# Altium schematic symbol library TMS320.SchLib: 1 symbol
Pins are listed as number, name and electrical type; pins without a type are passive.

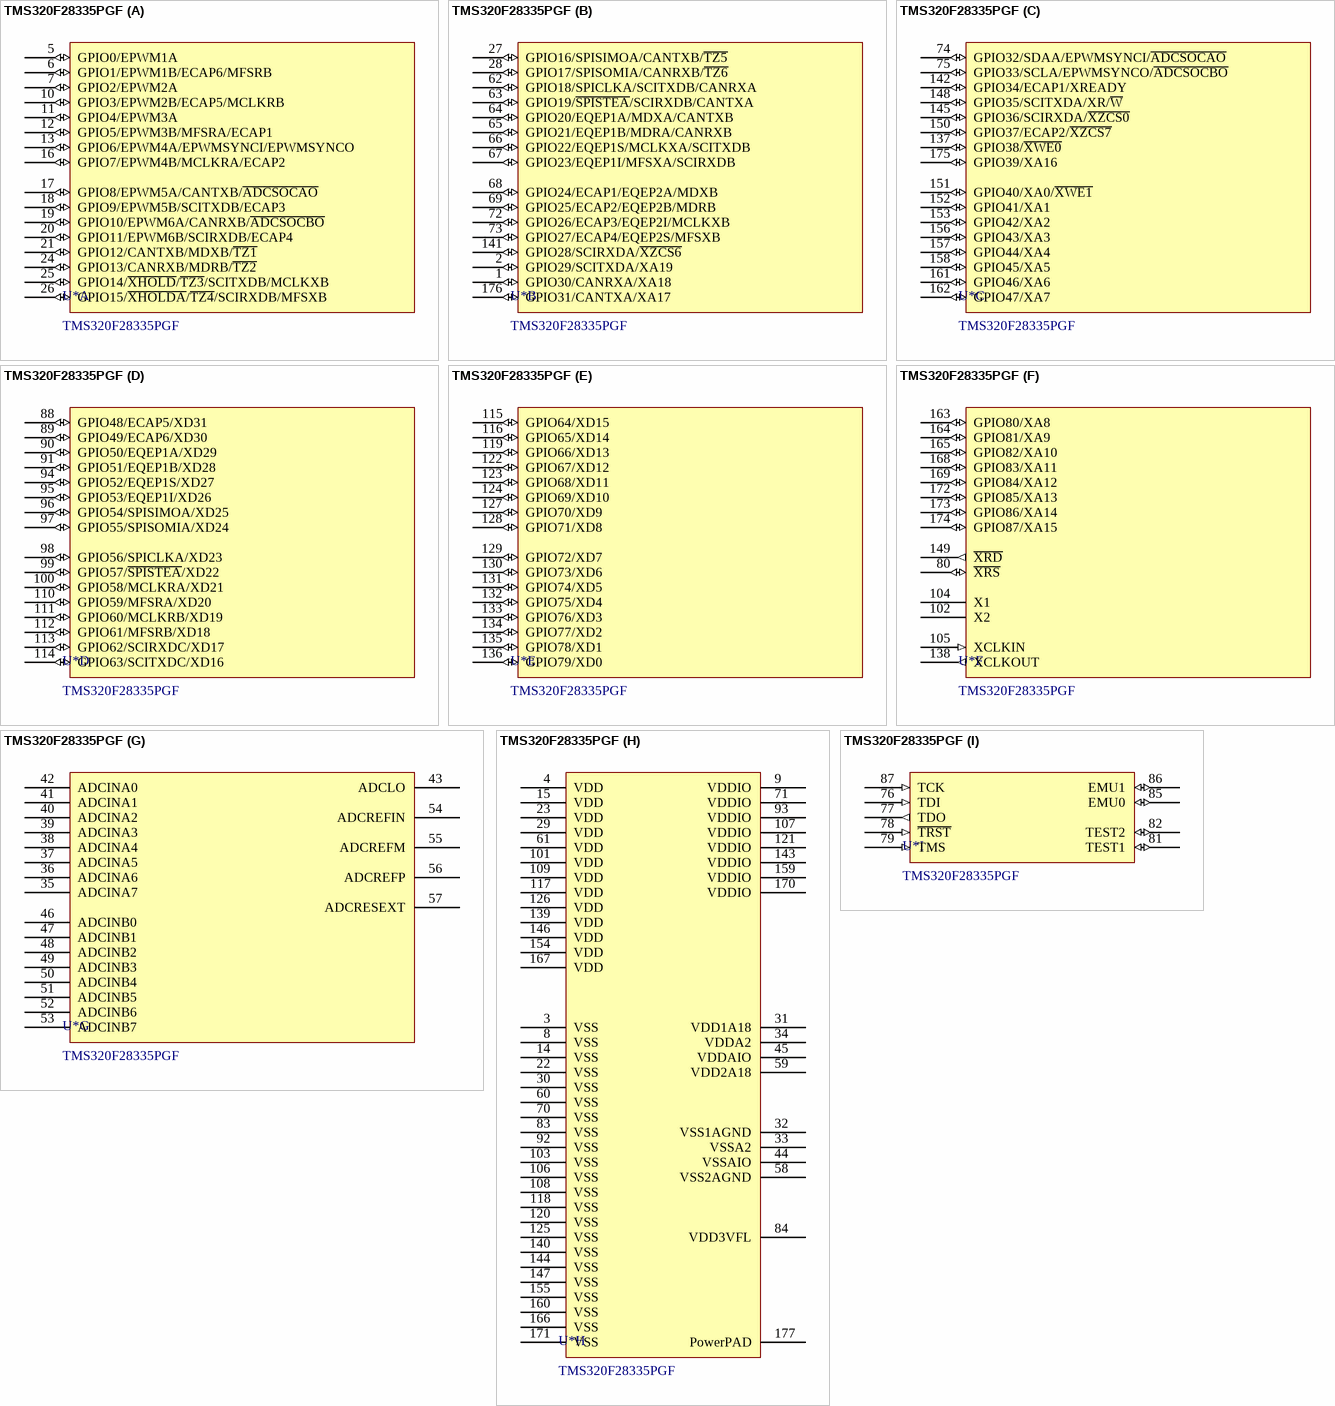
[diagram p0: symbol TMS320F28335PGF]

## TMS320F28335PGF
designator U*
DSP Delfino 150MHz 512KB Flash 68KB RAM
footprint LQFP176 (LQFP176 with PowerPAD.)
part A pins: 5 GPIO0/EPWM1A  (io), 6 GPIO1/EPWM1B/ECAP6/MFSRB  (io), 7 GPIO2/EPWM2A  (io), 10 GPIO3/EPWM2B/ECAP5/MCLKRB  (io), 11 GPIO4/EPWM3A (io), 12 GPIO5/EPWM3B/MFSRA/ECAP1  (io), 13 GPIO6/EPWM4A/EPWMSYNCI/EPWMSYNCO  (io), 16 GPIO7/EPWM4B/MCLKRA/ECAP2  (io), 17 GPIO8/EPWM5A/CANTXB/~{ADCSOCAO} (io), 18 GPIO9/EPWM5B/SCITXDB/ECAP3 (io), 19 GPIO10/EPWM6A/CANRXB/~{ADCSOCBO} (io), 20 GPIO11/EPWM6B/SCIRXDB/ECAP4 (io), 21 GPIO12/CANTXB/MDXB/~{TZ1}  (io), 24 GPIO13/CANRXB/MDRB/~{TZ2} (io), 25 GPIO14/~{XHOLD}/~{TZ3}/SCITXDB/MCLKXB (io), 26 GPIO15/~{XHOLDA}/~{TZ4}/SCIRXDB/MFSXB (io)
part B pins: 1 GPIO30/CANRXA/XA18 (io), 2 GPIO29/SCITXDA/XA19  (io), 27 GPIO16/SPISIMOA/CANTXB/~{TZ5} (io), 28 GPIO17/SPISOMIA/CANRXB/~{TZ6} (io), 62 GPIO18/SPICLKA/SCITXDB/CANRXA (io), 63 GPIO19/~{SPISTEA}/SCIRXDB/CANTXA (io), 64 GPIO20/EQEP1A/MDXA/CANTXB (io), 65 GPIO21/EQEP1B/MDRA/CANRXB (io), 66 GPIO22/EQEP1S/MCLKXA/SCITXDB (io), 67 GPIO23/EQEP1I/MFSXA/SCIRXDB (io), 68 GPIO24/ECAP1/EQEP2A/MDXB (io), 69 GPIO25/ECAP2/EQEP2B/MDRB (io), 72 GPIO26/ECAP3/EQEP2I/MCLKXB (io), 73 GPIO27/ECAP4/EQEP2S/MFSXB (io), 141 GPIO28/SCIRXDA/~{XZCS6} (io), 176 GPIO31/CANTXA/XA17 (io)
part C pins: 74 GPIO32/SDAA/EPWMSYNCI/~{ADCSOCAO} (io), 75 GPIO33/SCLA/EPWMSYNCO/~{ADCSOCBO} (io), 137 GPIO38/~{XWE0} (io), 142 GPIO34/ECAP1/XREADY (io), 145 GPIO36/SCIRXDA/~{XZCS0} (io), 148 GPIO35/SCITXDA/XR/~{W} (io), 150 GPIO37/ECAP2/~{XZCS7} (io), 151 GPIO40/XA0/~{XWE1} (io), 152 GPIO41/XA1 (io), 153 GPIO42/XA2 (io), 156 GPIO43/XA3 (io), 157 GPIO44/XA4 (io), 158 GPIO45/XA5 (io), 161 GPIO46/XA6 (io), 162 GPIO47/XA7 (io), 175 GPIO39/XA16 (io)
part D pins: 88 GPIO48/ECAP5/XD31 (io), 89 GPIO49/ECAP6/XD30 (io), 90 GPIO50/EQEP1A/XD29 (io), 91 GPIO51/EQEP1B/XD28 (io), 94 GPIO52/EQEP1S/XD27 (io), 95 GPIO53/EQEP1I/XD26 (io), 96 GPIO54/SPISIMOA/XD25 (io), 97 GPIO55/SPISOMIA/XD24 (io), 98 GPIO56/SPICLKA/XD23 (io), 99 GPIO57/~{SPISTEA}/XD22 (io), 100 GPIO58/MCLKRA/XD21 (io), 110 GPIO59/MFSRA/XD20 (io), 111 GPIO60/MCLKRB/XD19 (io), 112 GPIO61/MFSRB/XD18 (io), 113 GPIO62/SCIRXDC/XD17 (io), 114 GPIO63/SCITXDC/XD16 (io)
part E pins: 115 GPIO64/XD15 (io), 116 GPIO65/XD14 (io), 119 GPIO66/XD13 (io), 122 GPIO67/XD12 (io), 123 GPIO68/XD11 (io), 124 GPIO69/XD10 (io), 127 GPIO70/XD9 (io), 128 GPIO71/XD8 (io), 129 GPIO72/XD7 (io), 130 GPIO73/XD6 (io), 131 GPIO74/XD5 (io), 132 GPIO75/XD4 (io), 133 GPIO76/XD3 (io), 134 GPIO77/XD2 (io), 135 GPIO78/XD1 (io), 136 GPIO79/XD0 (io)
part F pins: 80 ~{XRS} (io) "Device Reset (in) and Watchdog Reset (out).", 102 X2, 104 X1, 105 XCLKIN (in), 138 XCLKOUT (out), 149 ~{XRD} (out), 163 GPIO80/XA8 (io), 164 GPIO81/XA9 (io), 165 GPIO82/XA10 (io), 168 GPIO83/XA11 (io), 169 GPIO84/XA12 (io), 172 GPIO85/XA13 (io), 173 GPIO86/XA14 (io), 174 GPIO87/XA15 (io)
part G pins: 35 ADCINA7, 36 ADCINA6, 37 ADCINA5, 38 ADCINA4, 39 ADCINA3, 40 ADCINA2, 41 ADCINA1, 42 ADCINA0, 43 ADCLO "Low Reference.", 46 ADCINB0, 47 ADCINB1, 48 ADCINB2, 49 ADCINB3, 50 ADCINB4, 51 ADCINB5, 52 ADCINB6, 53 ADCINB7, 54 ADCREFIN "External reference input.", 55 ADCREFM "Internal Reference Medium Output.", 56 ADCREFP "Internal Reference Positive Output.", 57 ADCRESEXT "ADC External Current Bias Resistor. Connect a 22KOhms resistor to analog ground."
part H pins: 3 VSS (power), 4 VDD (power), 8 VSS (power), 9 VDDIO (power), 14 VSS (power), 15 VDD (power), 22 VSS (power), 23 VDD (power), 29 VDD (power), 30 VSS (power), 31 VDD1A18 (power), 32 VSS1AGND (power), 33 VSSA2 (power), 34 VDDA2 (power), 44 VSSAIO (power), 45 VDDAIO (power), 58 VSS2AGND (power), 59 VDD2A18 (power), 60 VSS (power), 61 VDD (power), 70 VSS (power), 71 VDDIO (power), 83 VSS (power), 84 VDD3VFL (power), 92 VSS (power), 93 VDDIO (power), 101 VDD (power), 103 VSS (power), 106 VSS (power), 107 VDDIO (power), 108 VSS (power), 109 VDD (power), 117 VDD (power), 118 VSS (power), 120 VSS (power), 121 VDDIO (power), 125 VSS (power), 126 VDD (power), 139 VDD (power), 140 VSS (power), 143 VDDIO (power), 144 VSS (power), 146 VDD (power), 147 VSS (power), 154 VDD (power), 155 VSS (power), 159 VDDIO (power), 160 VSS (power), 166 VSS (power), 167 VDD (power), 170 VDDIO (power), 171 VSS (power), 177 PowerPAD (power)
part I pins: 76 TDI (in) "JTAG Test Data Input.", 77 TDO (out) "JTAG Scan Out - Test Data Output.", 78 ~{TRST} (in), 79 TMS (in) "JTAG Test Mode Select.", 81 TEST1 (io), 82 TEST2 (io), 85 EMU0 (io), 86 EMU1 (io), 87 TCK (in) "JTAG Test Clock."